# EAGLE library part USB (library SparkFun-Connectors)
USB Connectors USB-B-PTH is fully proven SKU : PRT-00139/CONN-08278 USB-miniB is fully proven SKU : PRT-00587 USB-A-PCB is untested. USB-A-H is throughly reviewed, but untested. Spark Fun Electronics SKU : PRT-00437 USB-B-SMT is throughly reviewed, but untested. Needs silkscreen touching up. USB-A-S has not been used/tested USB-MB-H has not been used/tested USB-MICROB has been used. CONN-09505
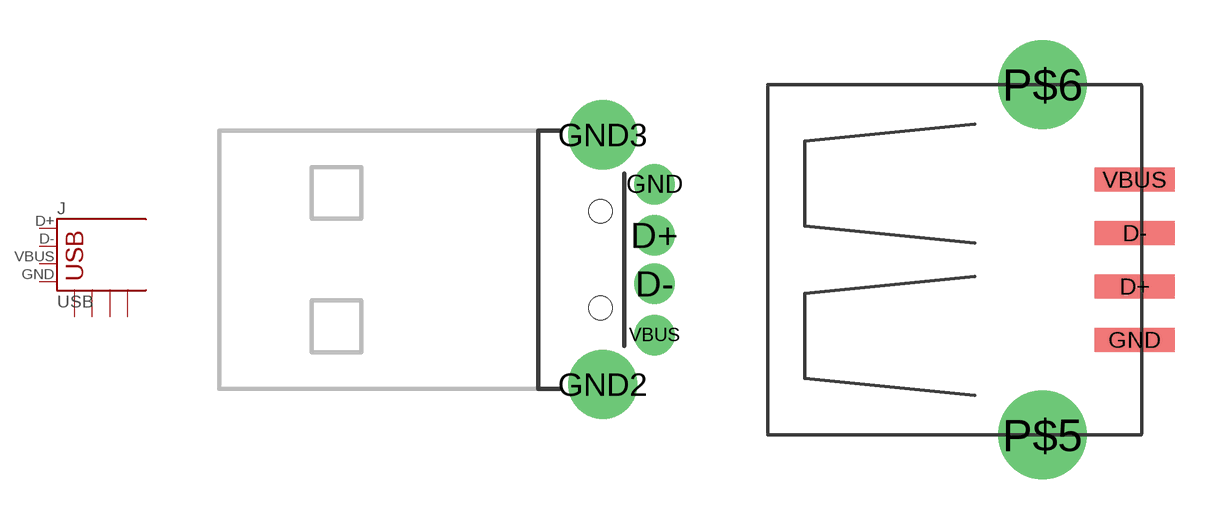
[diagram p56: symbol with the pads of USB-A-H; footprints USB-A-H, USB-A-S]

Designator prefix J

## USB-A-H (PROD_ID: CONN-08367)  [USB-A-H]
D+  D+
D-  D-
GND  GND
VBUS  VBUS

## USB-A-S  [USB-A-S]
Pads as for USB-A-H

## USB-MB-H  [USB-MB-H]
Pads as for USB-A-H

## USB-B-S  [USB-B-SMT]
D+  D+
D-  D-
GND  GND
VUSB  VBUS

## USBOLD  [USB-MINIB-OLD]
Pads as for USB-A-H

## USBPTH (PROD_ID: CONN-08278; VALUE: USB-B)  [USB-B-PTH]
Pads as for USB-A-H

## USB-JST-2MM-SMT (PROD_ID: CONN-08193)  [S4B-PH]
1  GND
2  D+
3  D-
4  VBUS

## USBSMD (PROD_ID: CONN-08193)  [USB-MINIB]
Pads as for USB-A-H

## USBPCB  [USB-A-PCB]
5V  VBUS
GND  GND
USB_M  D-
USB_P  D+

## USBPTH-VERTICAL  [USB-B-PTH-VERTICAL]
Pads as for USB-A-H

## USBUSB-A-S-NOSILK  [USB-A-S-NOSILK]
Pads as for USB-A-H

## USB-A-SMD (PROD_ID: CONN-09520)  [USB-A-S-NOSILK-FEMALE]
Pads as for USB-A-H

## USB-SMD-NS  [USB-MINIB-NOSTOP]
D+  D+
D-  D-
GND  GND
GND1  GND
GND2  GND
GND3  GND
GND4  GND
VBUS  VBUS

## USB_  [USB-A-S-SILK-FEMALE]
Pads as for USB-A-H

## USB-MICROB (PROD_ID: CONN-09505)  [USB-MICROB]
D+  D+
D-  D-
GND  GND
MT1  GND
MT2  GND
VBUS  VBUS

## USBA-SMD-MALE  [USB-A-SMT-MALE]
D+1  D+
D-1  D-
GND1  GND
VBUS1  VBUS

## USBA-SMD-MALE-LOCKING  [USB-A-SMT-MALE-LOCKING]
Pads as for USB-A-SMT-MALE

## USBPCB_NOPASTE  [USB-A-PCB-NOPASTE]
Pads as for USB-A-PCB

## Footprint USB-A-H (pad centres in mm)
USB Series A Hole Mounted
drill 0.914 pad 1.88: D+ 2.4,1.127; D- 2.4,-1.127; GND 2.4,3.5; VBUS 2.4,-3.5
drill 2.2: GND2 0,-5.8; GND3 0,5.8
hole 1.1 at -0.1,2.25
hole 1.1 at -0.1,-2.25

## Footprint USB-A-S (pad centres in mm)
USB Series A Surface Mounted
smd 3 x 0.9: D+ 3.45,-1; D- 3.45,1; GND 3.45,-3; VBUS 3.45,3
drill 2.311: P$5 0,-6.566; P$6 0,6.566

## Footprint USB-MB-H (pad centres in mm)
USB Series Mini-B Hole Mounted
drill 0.8: D+ 5.1,0; D- 3.9,0.8; GND 5.1,-1.6; ID 3.9,-0.8; VBUS 5.1,1.6
drill 1.9: P$6 0,-3.65; P$7 0,3.65

## Footprint USB-B-SMT (pad centres in mm)
USB Series B Surface Mounted
smd 6.04 x 3.4: 5 0.58,6.8; 6 0.58,-6.8
smd 3 x 0.7: D+ 7,1.875; D- 7,0.625; GND 7,-0.625; VUSB 7,-1.875
hole 1.4 at 0,2.25
hole 1.4 at 0,-2.25

## Footprint USB-MINIB-OLD (pad centres in mm)
USB Series Mini-B Surface Mounted
smd 2.5 x 2: 1 -3,-4.5; 2 -3,4.5
smd 3.5 x 2: 3 3,-4.5; 4 3,4.5
smd 3.5 x 0.5: D+ 3,0; D- 3,0.8; GND 3,-1.6; ID 3,-0.8; VBUS 3.01,1.61
hole 0.9 at 0,2.2
hole 0.9 at 0,-2.2

## Footprint USB-B-PTH (pad centres in mm)
USB Series B Hole Mounted
drill 0.914 pad 1.676: D+ 0,1.25; D- 1.981,1.25; GND 0,-1.25; VBUS 1.981,-1.25
drill 2.286: S1 -2.718,-6.02; S2 -2.718,6.02

## Footprint S4B-PH (pad centres in mm)
smd 1 x 4.6: 1 -3,-4.7; 2 -1,-4.7; 3 1,-4.7; 4 3,-4.7
smd 1.6 x 3.4: P$1 -5.4,0.5; P$2 5.4,0.5

## Footprint USB-MINIB (pad centres in mm)
USB Series Mini-B Surface Mounted
smd 2.5 x 0.5: D+ 2.5,0; D- 2.5,0.8; GND 2.5,-1.6; ID 2.5,-0.8; VBUS 2.5,1.6
smd 2.5 x 2: MTN1 -3,4.5; MTN2 2.5,4.5; MTN3 -3,-4.5; MTN4 2.5,-4.5
hole 0.9 at 0,2.2
hole 0.9 at 0,-2.2

## Footprint USB-A-PCB (pad centres in mm)
Card-edge USB A connector. For boards designed to be plugged directly into a USB slot. If possible, ensure that your PCB is about 2.4mm thick to fit snugly.
smd 7.5 x 1.5: 5V -0.2,-3.5; GND -0.2,3.5
smd 6.5 x 1: USB_M 0.3,-1; USB_P 0.3,1

## Footprint USB-B-PTH-VERTICAL (pad centres in mm)
USB Series B Hole Mounted
drill 0.914 pad 1.676: D+ 4.826,4.394; D- 4.826,7.595; GND 7.315,4.394; VBUS 7.315,7.595
drill 2.286: P$1 0,4.902; P$2 12.04,4.902

## Footprint USB-A-S-NOSILK (pad centres in mm)
smd 3 x 0.9: D+ 3.45,-1; D- 3.45,1; GND 3.45,-3; VBUS 3.45,3
drill 2.311: P$5 0,-6.566; P$6 0,6.566

## Footprint USB-A-S-NOSILK-FEMALE (pad centres in mm)
smd 3 x 0.9: D+ 4.212,-1; D- 4.212,1; GND 4.212,-3.5; VBUS 4.212,3.5
drill 2.311: S1 0,-6.566; S2 0,6.566

## Footprint USB-MINIB-NOSTOP (pad centres in mm)
smd 2.5 x 0.5: D+ 2.5,0; D- 2.5,0.8; GND 2.5,-1.6; ID 2.5,-0.8; VBUS 2.5,1.6
smd 2.5 x 2: GND1 -3,4.5; GND2 2.5,4.5; GND3 2.5,-4.5; GND4 -3,-4.5

## Footprint USB-A-S-SILK-FEMALE (pad centres in mm)
smd 3 x 0.9: D+ 7.212,-1; D- 7.212,1; GND 7.212,-3.5; VBUS 7.212,3.5
drill 2.311: P$5 3,-6.566; P$6 3,6.566

## Footprint USB-MICROB (pad centres in mm)
Micro USB Package
smd 0.35 x 1.4: D+ 0,2.65; D- -0.65,2.65; GND 1.3,2.65; ID 0.65,2.65; VBUS -1.3,2.65
smd 1.8 x 1.9: MT1 -4,0; MT2 4,0
smd 1.9 x 1.9: P$1 -1.27,0; P$2 1.27,0

## Footprint USB-A-SMT-MALE (pad centres in mm)
smd 0.8 x 2.5: D+1 1.027,-5.87; D-1 -1.027,-5.87; GND1 3.551,-5.87; VBUS1 -3.5,-5.87
drill 0.8 pad 1.778 long: P$1 5.85,-3.05; P$3 -5.85,-3.05
hole 1.1 at 2.25,-3.12
hole 1.1 at -2.25,-3.12
hole 0.8 at -5.85,-3.45
hole 0.8 at -5.85,-3.85
hole 0.8 at -5.85,-2.65
hole 0.8 at -5.85,-2.25
hole 0.8 at 5.85,-3.45
hole 0.8 at 5.85,-3.85
hole 0.8 at 5.85,-2.65
hole 0.8 at 5.85,-2.25

## Footprint USB-A-SMT-MALE-LOCKING (pad centres in mm)
smd 0.8 x 2.5: D+1 1.027,-5.87; D-1 -1.027,-5.87; GND1 3.551,-5.87; VBUS1 -3.5,-5.87
drill 0.8 pad 1.778 long: P$1 5.647,-3.05; P$3 -5.647,-3.05
hole 1.1 at 2.25,-3.12
hole 1.1 at -2.25,-3.12
hole 0.8 at -5.647,-3.45
hole 0.8 at -5.647,-3.85
hole 0.8 at -5.647,-2.65
hole 0.8 at -5.647,-2.25
hole 0.8 at 5.647,-3.45
hole 0.8 at 5.647,-3.85
hole 0.8 at 5.647,-2.65
hole 0.8 at 5.647,-2.25

## Footprint USB-A-PCB-NOPASTE (pad centres in mm)
smd 7.5 x 1.5: 5V -0.2,-3.5; GND -0.2,3.5
smd 6.5 x 1: USB_M 0.3,-1; USB_P 0.3,1